# Altium schematic symbol library nyt_lib.SchLib: 3 symbols
Pins are listed as number, name and electrical type; pins without a type are passive.

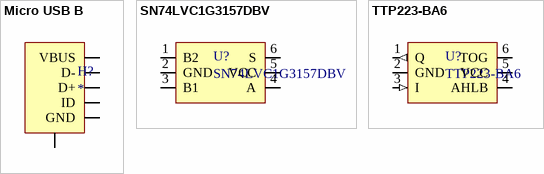
[diagram p0: symbols Micro USB B to TTP223-BA6]

## Micro USB B
designator H?
DX4R005H91
footprint DX4R005H91
pins: 1 VBUS (power), 2 D-, 3 D+, 4 ID, 5 GND (power), 6 CASE

## SN74LVC1G3157DBV
designator U?
SINGLE-POLE, DOUBLE-THROW ANALOG SWITCH
footprint SOT23-6 (SOT23, 6-Leads, Body 2,90x2,45mm, Pitch 0,95mm, IPC Medium Density)
pins: 1 B2, 2 GND (power), 3 B1, 4 A, 5 VCC (power), 6 S

## TTP223-BA6
designator U?
Touch pad detector IC; Name: TTP223-BA6
footprint SOT23-6 (SOT23, 6-Leads, Body 2,90x2,45mm, Pitch 0,95mm, IPC Medium Density)
pins: 1 Q (out), 2 GND (power), 3 I (in), 4 AHLB, 5 VCC (power), 6 TOG